# Altium integrated library Big_Library_PCB_Terminal.IntLib: 27 symbols
Pins are listed as number, name and electrical type; pins without a type are passive.

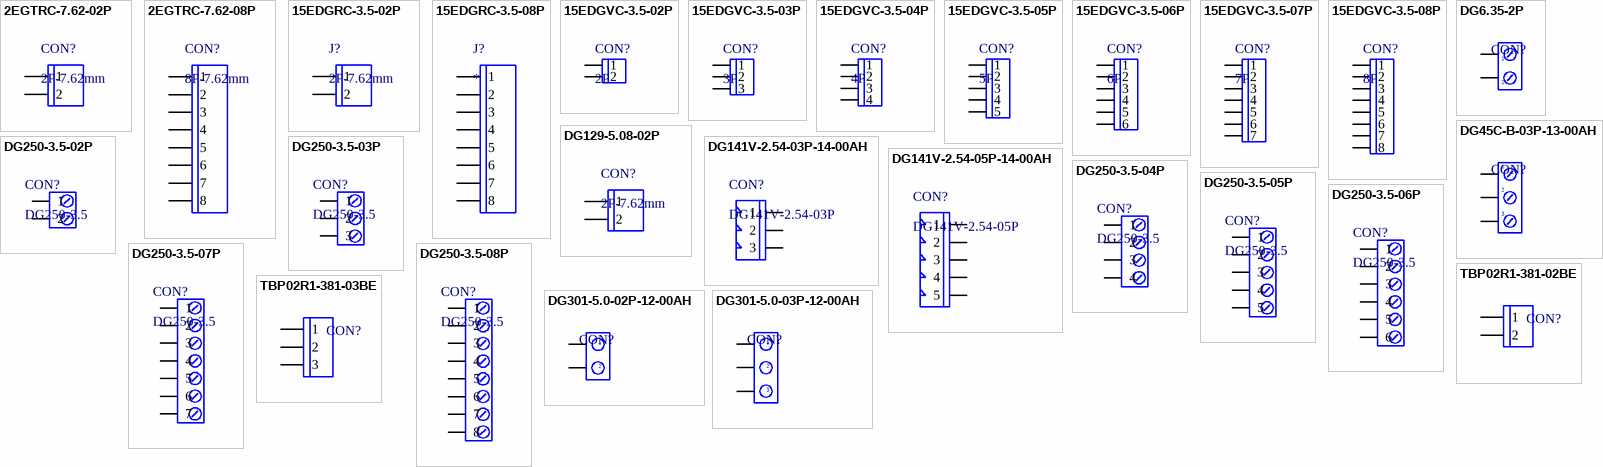
[diagram p0: symbols 2EGTRC-7.62-02P to TBP02R1-381-03BE]

## 2EGTRC-7.62-02P
designator CON?, comment 2P-7.62mm
Connector; Manufacturer: GOLTEN; Pitch: 7.62mm; Number Of Position: 8P; Current: 15A; Gender: MALE; Mounting Type: THT R/A; ComponentLink1Description: Link; ComponentLink1URL: https://ozdisan.com/connectors-and-interconnects/terminal-blocks/pluggable-terminal-blocks/2EGTRC-7-62-08P-14-100AH/424735
footprint 2EGTRC-7.62-02P
pins: 1, 2

## 2EGTRC-7.62-08P
designator CON?, comment 8P-7.62mm
Connector; Manufacturer: GOLTEN; Pitch: 7.62mm; Number Of Position: 8P; Current: 15A; Gender: MALE; Mounting Type: THT R/A; ComponentLink1Description: Link; ComponentLink1URL: https://ozdisan.com/connectors-and-interconnects/terminal-blocks/pluggable-terminal-blocks/2EGTRC-7-62-08P-14-100AH/424735
footprint 2EGTRC-7.62-08P
pins: 1, 2, 3, 4, 5, 6, 7, 8

## 15EDGRC-3.5-02P
designator J?, comment 2P-7.62mm
Connector; Manufacturer_Name: Degson; Manufacturer_Part_Number: 15EDGRC-3.5-08P-14-00A; Datasheet Link: https://www.tme.eu/Document/c7e2facf434c6541c93efde757aaf5e6/607.pdf; Height: 7mm
footprint 15EDGRC-3.5-02P
pins: 1, 2

## 15EDGRC-3.5-08P
designator J?
Connector; Manufacturer_Name: Degson; Manufacturer_Part_Number: 15EDGRC-3.5-08P-14-00A; Datasheet Link: https://www.tme.eu/Document/c7e2facf434c6541c93efde757aaf5e6/607.pdf; Height: 7mm
footprint 15EDGRC-3.5-08P
pins: 1, 2, 3, 4, 5, 6, 7, 8

## 15EDGVC-3.5-02P
designator CON?, comment 2P
Pluggable Terminal Blocksnominal current7A.Rated voltage(Ⅱ/2)：250V,pitch:3.5mm,Color:green,Contact surface:Tin; Pitch: 3.5mm; Rated Voltage: 250V; Rated Current: 7A; Con. Direction: 90C; Number of Pins: 2; ComponentLink1Description: Link
footprint 15EDGVC-3.5-02P
pins: 1, 2

## 15EDGVC-3.5-03P
designator CON?, comment 3P
Pluggable Terminal Blocksnominal current7A.Rated voltage(Ⅱ/2)：250V,pitch:3.5mm,Color:green,Contact surface:Tin; Pitch: 3.5mm; Rated Voltage: 250V; Rated Current: 7A; Con. Direction: 90C; Number of Pins: 3; ComponentLink1Description: Link
footprint 15EDGVC-3.5-03P
pins: 1, 2, 3

## 15EDGVC-3.5-04P
designator CON?, comment 4P
Pluggable Terminal Blocksnominal current7A.Rated voltage(Ⅱ/2)：250V,pitch:3.5mm,Color:green,Contact surface:Tin; Pitch: 3.5mm; Rated Voltage: 250V; Rated Current: 7A; Con. Direction: 90C; Number of Pins: 4; ComponentLink1Description: Link
footprint 15EDGVC-3.5-04P
pins: 1, 2, 3, 4

## 15EDGVC-3.5-05P
designator CON?, comment 5P
Pluggable Terminal Blocksnominal current7A.Rated voltage(Ⅱ/2)：250V,pitch:3.5mm,Color:green,Contact surface:Tin; Pitch: 3.5mm; Rated Voltage: 250V; Rated Current: 7A; Con. Direction: 90C; Number of Pins: 5; ComponentLink1Description: Link
footprint 15EDGVC-3.5-05P
pins: 1, 2, 3, 4, 5

## 15EDGVC-3.5-06P
designator CON?, comment 6P
Pluggable Terminal Blocksnominal current7A.Rated voltage(Ⅱ/2)：250V,pitch:3.5mm,Color:green,Contact surface:Tin; Pitch: 3.5mm; Rated Voltage: 250V; Rated Current: 7A; Con. Direction: 90C; Number of Pins: 6; ComponentLink1Description: Link
footprint 15EDGVC-3.5-06P
pins: 1, 2, 3, 4, 5, 6

## 15EDGVC-3.5-07P
designator CON?, comment 7P
Pluggable Terminal Blocksnominal current7A.Rated voltage(Ⅱ/2)：250V,pitch:3.5mm,Color:green,Contact surface:Tin; Pitch: 3.5mm; Rated Voltage: 250V; Rated Current: 7A; Con. Direction: 90C; Number of Pins: 7; ComponentLink1Description: Link
footprint 15EDGVC-3.5-07P
pins: 1, 2, 3, 4, 5, 6, 7

## 15EDGVC-3.5-08P
designator CON?, comment 8P
Pluggable Terminal Blocksnominal current7A.Rated voltage(Ⅱ/2)：250V,pitch:3.5mm,Color:green,Contact surface:Tin; Pitch: 3.5mm; Rated Voltage: 250V; Rated Current: 7A; Con. Direction: 90C; Number of Pins: 8; ComponentLink1Description: Link
footprint 15EDGVC-3.5-08P
pins: 1, 2, 3, 4, 5, 6, 7, 8

## DG6.35-2P
designator CON?
footprint DG636-6.35-2P
pins: 1, 2

## DG45C-B-03P-13-00AH
designator CON?
footprint DG45C-B-03P
pins: 1, 2, 3

## DG129-5.08-02P
designator CON?, comment 2P-7.62mm
Connector; Manufacturer: DEGSON; Pitch: 5.08; Number Of Position: 2P; Current: 20A; Mounting Type: THT R/A; ComponentLink1Description: New link; ComponentLink1URL: https://ozdisan.com/connectors-and-interconnects/terminal-blocks/pluggable-terminal-blocks/2EGTRC-7-62-08P-14-100AH/424735
footprint DG129-5.08-02P
pins: 1, 2

## DG141V-2.54-03P-14-00AH
designator CON?, comment DG141V-2.54-03P
spring type terminal block; Number Of Position: 3P; Pitch: 2.54mm; Current: 2A; Voltage: 150V; Wire Entry: 180C; ComponentLink1Description: Link; ComponentLink1URL: https://ozdisan.com/konnektor-ve-baglanti-elemanlari/klemensler/pcb-klemensler/DG141V-2-54-03P-14-00AH/467349
footprint DG141V-2.54-03P
pins: 1, 2, 3

## DG141V-2.54-05P-14-00AH
designator CON?, comment DG141V-2.54-05P
spring type terminal block; Number Of Position: 5P; Pitch: 2.54mm; Current: 2A; Voltage: 150V; Wire Entry: 180C; ComponentLink1Description: Link; ComponentLink1URL: https://ozdisan.com/konnektor-ve-baglanti-elemanlari/klemensler/pcb-klemensler/DG141V-2-54-05P-14-00AH/524678
footprint DG141V-2.54-05P
pins: 1, 2, 3, 4, 5

## DG250-3.5-02P
designator CON?, comment DG250-3.5
TERM.BLK.3.50MM 2P PCB TYPE; Pitch: 3.5mm; Rated Current: 7A; Rated Voltage: 300V; Color: Gray; ComponentLink1Description: Link; ComponentLink1URL: https://ozdisan.com/konnektor-ve-baglanti-elemanlari/klemensler/pcb-klemensler/DG250-3-5-02P-11-00AH/600615
footprint DG250-2P
pins: 1, 2

## DG250-3.5-03P
designator CON?, comment DG250-3.5
TERM.BLK.3.50MM 3P PCB TYPE; Pitch: 3.5mm; Rated Current: 7A; Rated Voltage: 300V; Color: Gray; ComponentLink1Description: Link; ComponentLink1URL: https://ozdisan.com/konnektor-ve-baglanti-elemanlari/klemensler/pcb-klemensler/DG250-3-5-02P-11-00AH/600615
footprint DG250-3P
pins: 1, 2, 3

## DG250-3.5-04P
designator CON?, comment DG250-3.5
TERM.BLK.3.50MM 4P PCB TYPE; Pitch: 3.5mm; Rated Current: 7A; Rated Voltage: 300V; Color: Gray; ComponentLink1Description: Link; ComponentLink1URL: https://ozdisan.com/konnektor-ve-baglanti-elemanlari/klemensler/pcb-klemensler/DG250-3-5-02P-11-00AH/600615
footprint DG250-4P
pins: 1, 2, 3, 4

## DG250-3.5-05P
designator CON?, comment DG250-3.5
TERM.BLK.3.50MM 5P PCB TYPE; Pitch: 3.5mm; Rated Current: 7A; Rated Voltage: 300V; Color: Gray; ComponentLink1Description: Link; ComponentLink1URL: https://ozdisan.com/konnektor-ve-baglanti-elemanlari/klemensler/pcb-klemensler/DG250-3-5-02P-11-00AH/600615
footprint DG250-5P
pins: 1, 2, 3, 4, 5

## DG250-3.5-06P
designator CON?, comment DG250-3.5
TERM.BLK.3.50MM 6P PCB TYPE; Pitch: 3.5mm; Rated Current: 7A; Rated Voltage: 300V; Color: Gray; ComponentLink1Description: Link; ComponentLink1URL: https://ozdisan.com/konnektor-ve-baglanti-elemanlari/klemensler/pcb-klemensler/DG250-3-5-02P-11-00AH/600615
footprint DG250-6P
pins: 1, 2, 3, 4, 5, 6

## DG250-3.5-07P
designator CON?, comment DG250-3.5
TERM.BLK.3.50MM 7P PCB TYPE; Pitch: 3.5mm; Rated Current: 7A; Rated Voltage: 300V; Color: Gray; ComponentLink1Description: Link; ComponentLink1URL: https://ozdisan.com/konnektor-ve-baglanti-elemanlari/klemensler/pcb-klemensler/DG250-3-5-02P-11-00AH/600615
footprint DG250-7P
pins: 1, 2, 3, 4, 5, 6, 7

## DG250-3.5-08P
designator CON?, comment DG250-3.5
TERM.BLK.3.50MM 8P PCB TYPE; Pitch: 3.5mm; Rated Current: 7A; Rated Voltage: 300V; Color: Gray; ComponentLink1Description: Link; ComponentLink1URL: https://ozdisan.com/konnektor-ve-baglanti-elemanlari/klemensler/pcb-klemensler/DG250-3-5-02P-11-00AH/600615
footprint DG250-8P
pins: 1, 2, 3, 4, 5, 6, 7, 8

## DG301-5.0-02P-12-00AH
designator CON?
footprint DG301-5.0-02P-12-00AH
pins: 1, 2

## DG301-5.0-03P-12-00AH
designator CON?
Position: 3P; Current: 15A; Voltage: 300V; Pitch: 5mm; ComponentLink1Description: Link
footprint DG301-5.0-03P-12-00AH
pins: 1, 2, 3

## TBP02R1-381-02BE
designator CON?
2~24 Poles, Pluggable,Receptacle, Horizontal, 3.81 Pitch, Terminal Block Connector; MP: TBP02R1-381-02BE; MF: CUI Devices; Package: None; CUI_purchase_URL: https://www.cuidevices.com/product/interconnect/connectors/terminal-blocks/tbp02r1-381-series?utm_source=snapeda.com&utm_medium=referral&utm_campaign=snapedaBOM; Price: None; Availability: Unavailable; Value: *; SnapEDA_Link: https://www.snapeda.com/parts/TBP02R1-381-02BE/CUI%20Devices/view-part/3604716/?ref=snap
footprint CUI_TBP02R1-381-02BE
pins: 1, 2

## TBP02R1-381-03BE
designator CON?
2~24 Poles, Pluggable,Receptacle, Horizontal, 3.81 Pitch, Terminal Block Connector; MP: TBP02R1-381-02BE; MF: CUI Devices; Package: None; CUI_purchase_URL: https://www.cuidevices.com/product/interconnect/connectors/terminal-blocks/tbp02r1-381-series?utm_source=snapeda.com&utm_medium=referral&utm_campaign=snapedaBOM; Price: None; Availability: Unavailable; Value: *; SnapEDA_Link: https://www.snapeda.com/parts/TBP02R1-381-02BE/CUI%20Devices/view-part/3604716/?ref=snap
footprint CUI_TBP02R1-381-03BE
pins: 1, 2, 3